# Altium schematic symbol library HTK-MUC51.SchLib: 1 symbol
Pins are listed as number, name and electrical type; pins without a type are passive.

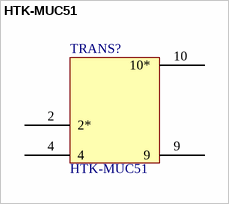
[diagram p0: symbol HTK-MUC51]

## HTK-MUC51
designator TRANS?
Bien ap xung EPC13 5V1.5A
footprint HTL-MUC51
pins: 2 2*, 4, 9, 10 10*